# Altium schematic symbol library Resistor_cement(2.5cm).SchLib: 1 symbol
Pins are listed as number, name and electrical type; pins without a type are passive.

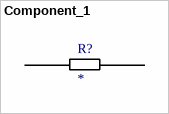
[diagram p0: symbol Component_1]

## Component_1
designator R?
25mm length
footprint PCBComponent_1
footprint PCBComponent_1
pins: 1, 2